# Altium footprint library 61304011121-6.PcbLib: 1 footprints
Each footprint in its own frame and in the unit in brackets; x right, y up, seen from the top. Pads: shape width x height; smd on the part's side, far side on the other; paste and mask are expansions set on the pad; w line width, h text height; cw(c..) or ccw(c..) is an arc to the next point about the centre after c.
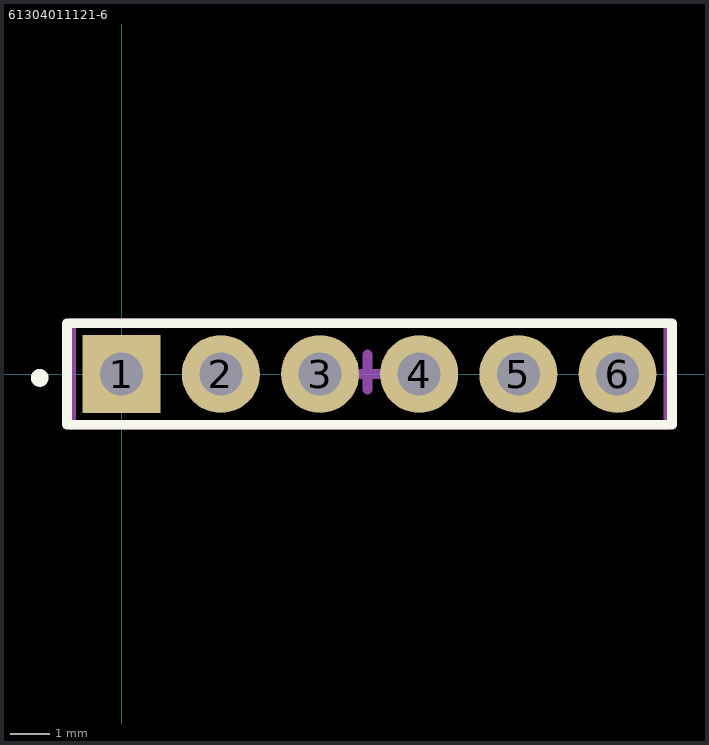
[diagram p0: the footprint, top view; thin cyan lines are the x and y axes]

## 61304011121-6 [mm]
pads (6):
  rect 2x2 hole 1.1 mask+0.051: 1(0,0)
  round 2 hole 1.1 mask+0.051: 2(2.54,0) 3(5.08,0) 4(7.62,0) 5(10.16,0) 6(12.7,0)
Top Overlay:
  circle w0.254: c-2.1,-0.1 r0.1
  lines w0.254: -1.4,-1.3 14.1,-1.3 14.1,-1 14.1,0.3 14.1,1.3 -1.4,1.3 -1.4,-1.3
Mechanical 13:
  lines w0.254: -1.3,-1.3 -1.3,1.3 14,1.3 14,-1.3 -1.3,-1.3
Mechanical 15:
  lines w0.254: 5.9,0 6.3,0 ; 6.3,0.05 6.3,0 ; 6.8,0 6.3,0 ; 6.3,0 6.3,0.5 6.3,-0.4 6.3,0
3D body "61304011121-6.stp": height 8.35, standoff -3.04, extent -1.27,-1.272 13.97,1.268